# Altium schematic symbol library kmilo17pet-TI_LDO_0_350.SchLib: 1649 symbols (part 41 of 66)
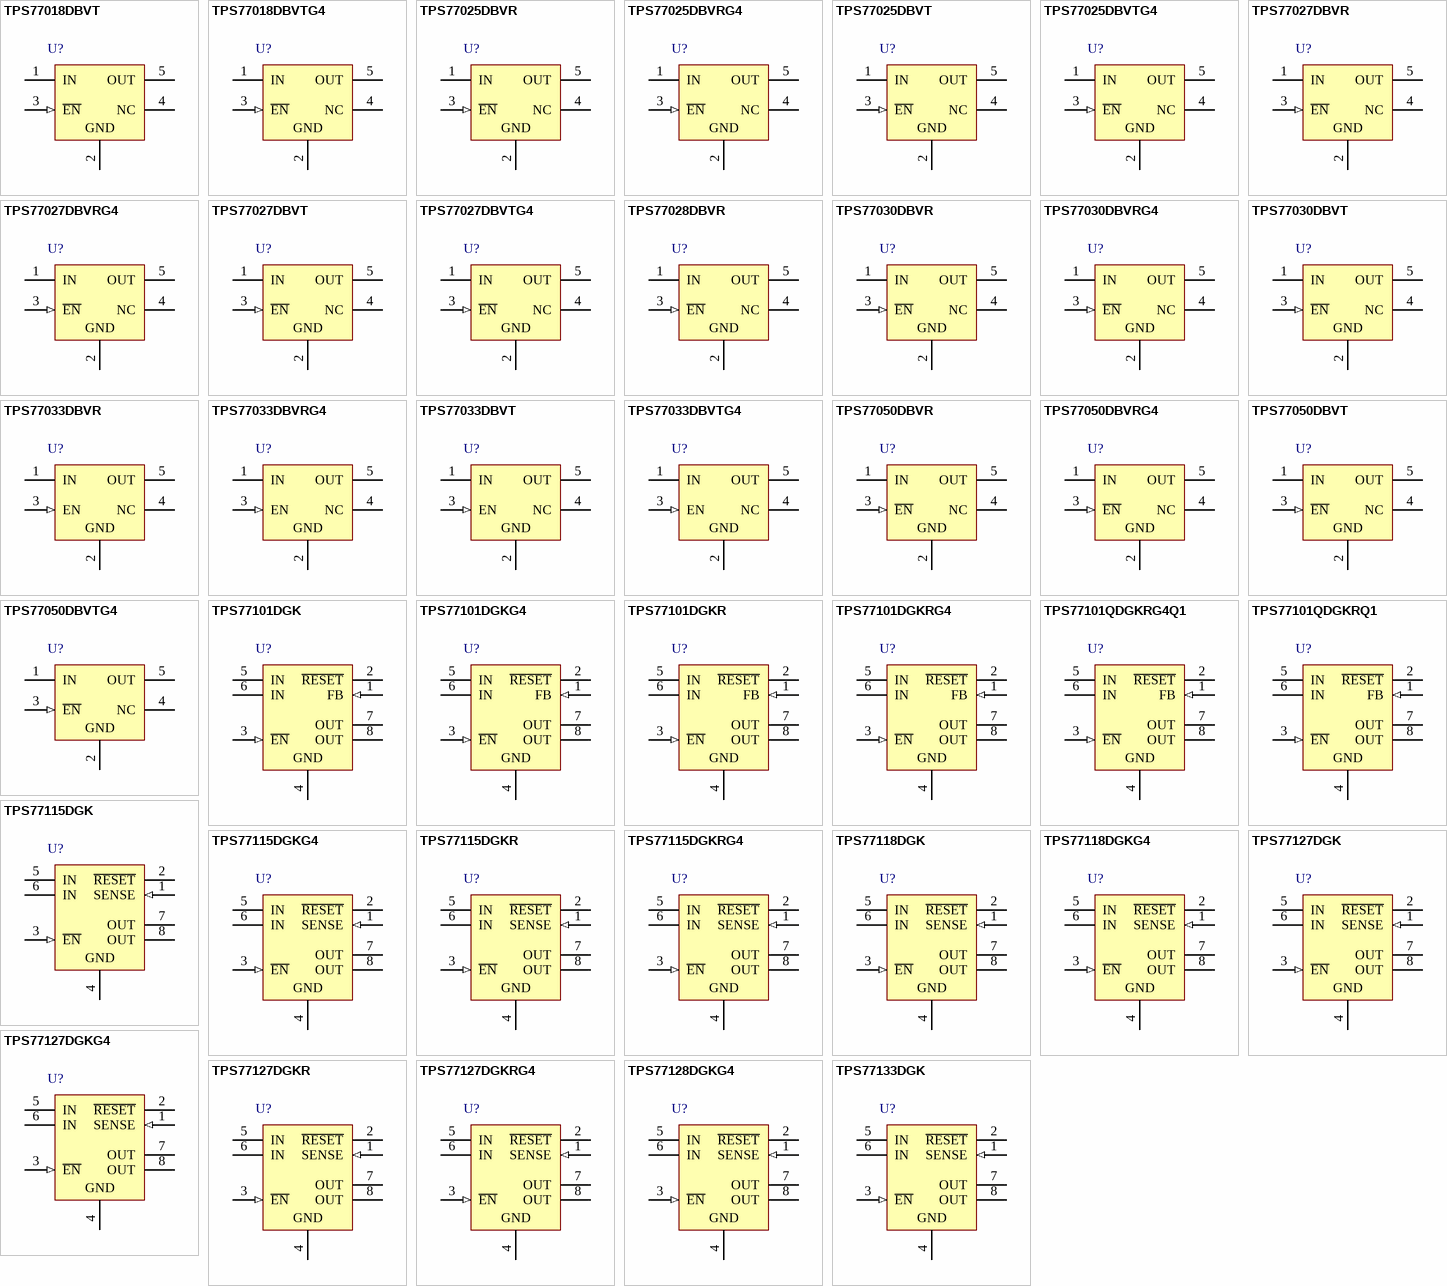
[diagram p82: symbols TPS77018DBVT to TPS77133DGK]

## TPS77027DBVTG4
designator U?
Single Output LDO, 50 mA, Fixed 2.7 V Output, 2.7 to 10 V Input, 5-pin SOT-23 (DBV), -40 to 125 degC, Green (RoHS & no Sb/Br); Manufacturer: Texas Instruments; PartNumber: TPS77027DBVTG4; Accuracy(%): 3; Fixed Output Options(V): 2.7; Iout(Max)(A): 0.05; Iq(Typ)(mA): 0.02; SubFamily: Single Channel LDO; Vdo(Typ)(mV): 35; Vin(Max)(V): 10; DatasheetVersion: SLVS210D; PackageVersion: 4073253-4/K; PackageReference: DBV5; PackageDescription: 5-Pin Plastic Small Outline, Body 1.60 Ã— 2.90 mm, Pitch 0.95 mm; Supplier 1: Digi-Key; Supplier Part Number 1: TPS77027DBVTG4-ND; Supplier 2: Mouser; Supplier Part Number 2: 595-TPS77027DBVTG4; Eco-Plan: Green (RoHS & no Sb/Br); Vin(Min)(V): 2.7; Vout Adj(Max)(V): 2.7; Vout Adj(Min)(V): 2.7; Mounting Technology: Surface Mount; Code_JEDEC: MO-178; ComponentLink1Description: Manufacturer URL; ComponentLink1URL: http://www.ti.com/; ComponentLink2Description: Datasheet; ComponentLink2URL: http://www.ti.com/general/docs/lit/getliterature.tsp?genericPartNumber=TPS77027&fileType=pdf; ComponentLink3Description: Package Specification; ComponentLink3URL: http://www.ti.com/litv/pdf/mpds018i
footprint TI-DBV5_N (SOT23, 5-Leads, Body 2.9x1.6mm, Pitch 0.95mm, IPC Medium Density)
footprint TI-DBV5_L (SOT23, 5-Leads, Body 2.9x1.6mm, Pitch 0.95mm, IPC High Density)
footprint TI-DBV5_M (SOT23, 5-Leads, Body 2.9x1.6mm, Pitch 0.95mm, IPC Low Density)
pins: 1 IN (power) "Input supply voltage", 2 GND (power) "Ground", 3 ~{EN} (in) "Enable input", 4 NC "No connection", 5 OUT (power) "Regulated output voltage"

## TPS77028DBVR
designator U?
Single Output LDO, 50 mA, Fixed 2.8 V Output, 2.7 to 10 V Input, with Low IQ, 5-pin SOT-23 (DBV), -40 to 125 degC, Green (RoHS & no Sb/Br); Manufacturer: Texas Instruments; PartNumber: TPS77028DBVR; Accuracy(%): 3; Fixed Output Options(V): 2.8; Iout(Max)(A): 0.05; Iq(Typ)(mA): 0.02; Rating: Catalog; SubFamily: Single Channel LDO; Vdo(Typ)(mV): 60; Vin(Max)(V): 10; Vin(Min)(V): 2.7; DatasheetVersion: SLVS017U; PackageVersion: 4073253-4/K; PackageReference: DBV5; PackageDescription: 5-Pin Plastic Small Outline, Body 1.60 Ã— 2.90 mm, Pitch 0.95 mm; Supplier 1: Digi-Key; Supplier Part Number 1: 296-11049-2-ND; Supplier 2: Digi-Key; Supplier Part Number 2: 296-11049-1-ND; Supplier 3: Digi-Key; Supplier Part Number 3: 296-11049-6-ND; Supplier 4: Newark; Supplier Part Number 4: 77C1182; Supplier 5: Mouser; Supplier Part Number 5: 595-TPS77028DBVR; Eco-Plan: Green (RoHS & no Sb/Br); Vout Adj(Max)(V): 2.8; Vout Adj(Min)(V): 2.8; Mounting Technology: Surface Mount; Code_JEDEC: MO-178; ComponentLink1Description: Manufacturer URL; ComponentLink1URL: http://www.ti.com/; ComponentLink2Description: Datasheet; ComponentLink2URL: http://www.ti.com/general/docs/lit/getliterature.tsp?genericPartNumber=TL751L10&fileType=pdf; ComponentLink3Description: Package Specification; ComponentLink3URL: http://www.ti.com/litv/pdf/mpds018i; ComponentLink4Description: URL Link1; ComponentLink4URL: Samples URL:http://www.ti.com/product/tl751l10#samples
footprint TI-DBV5_N (SOT23, 5-Leads, Body 2.9x1.6mm, Pitch 0.95mm, IPC Medium Density)
footprint TI-DBV5_L (SOT23, 5-Leads, Body 2.9x1.6mm, Pitch 0.95mm, IPC High Density)
footprint TI-DBV5_M (SOT23, 5-Leads, Body 2.9x1.6mm, Pitch 0.95mm, IPC Low Density)
pins: 1 IN (power) "Input supply voltage", 2 GND (power) "Ground", 3 ~{EN} (in) "Enable input", 4 NC "No connection", 5 OUT (power) "Regulated output voltage"

## TPS77030DBVR
designator U?
Single Output LDO, 50 mA, Fixed 3 V Output, 2.7 to 10 V Input, with Low IQ, 5-pin SOT-23 (DBV), -40 to 125 degC, Green (RoHS & no Sb/Br); Manufacturer: Texas Instruments; PartNumber: TPS77030DBVR; Accuracy(%): 3; Iout(Max)(A): 0.05; Iq(Typ)(mA): 0.02; Rating: Catalog; SubFamily: Single Channel LDO; Vdo(Typ)(mV): 57; Vin(Max)(V): 10; Vin(Min)(V): 2.7; DatasheetVersion: SLVS210D; PackageVersion: 4073253-4/K; PackageReference: DBV5; PackageDescription: 5-Pin Plastic Small Outline, Body 1.60 Ã— 2.90 mm, Pitch 0.95 mm; Supplier 1: Digi-Key; Supplier Part Number 1: 296-11050-2-ND; Supplier 2: Digi-Key; Supplier Part Number 2: 296-11050-1-ND; Supplier 3: Digi-Key; Supplier Part Number 3: 296-11050-6-ND; Supplier 4: Newark; Supplier Part Number 4: 77C1184; Supplier 5: Mouser; Supplier Part Number 5: 595-TPS77030DBVR; Eco-Plan: Green (RoHS & no Sb/Br); Fixed Output Options(V): 3; Vout Adj(Max)(V): 3; Vout Adj(Min)(V): 3; Mounting Technology: Surface Mount; Code_JEDEC: MO-178; ComponentLink1Description: Manufacturer URL; ComponentLink1URL: http://www.ti.com/; ComponentLink2Description: Datasheet; ComponentLink2URL: http://www.ti.com/general/docs/lit/getliterature.tsp?genericPartNumber=TPS77030&fileType=pdf; ComponentLink3Description: Package Specification; ComponentLink3URL: http://www.ti.com/litv/pdf/mpds018i; ComponentLink4Description: URL Link1; ComponentLink4URL: Samples URL:http://www.ti.com/product/tps77030#samples
footprint TI-DBV5_N (SOT23, 5-Leads, Body 2.9x1.6mm, Pitch 0.95mm, IPC Medium Density)
footprint TI-DBV5_L (SOT23, 5-Leads, Body 2.9x1.6mm, Pitch 0.95mm, IPC High Density)
footprint TI-DBV5_M (SOT23, 5-Leads, Body 2.9x1.6mm, Pitch 0.95mm, IPC Low Density)
pins: 1 IN (power) "Input supply voltage", 2 GND (power) "Ground", 3 ~{EN} (in) "Enable input", 4 NC "No connection", 5 OUT (power) "Regulated output voltage"

## TPS77030DBVRG4
designator U?
Single Output LDO, 50 mA, Fixed 3 V Output, 2.7 to 10 V Input, with Low IQ, 5-pin SOT-23 (DBV), -40 to 125 degC, Green (RoHS & no Sb/Br); Manufacturer: Texas Instruments; PartNumber: TPS77030DBVRG4; Accuracy(%): 3; Iout(Max)(A): 0.05; Iq(Typ)(mA): 0.02; Rating: Catalog; SubFamily: Single Channel LDO; Vdo(Typ)(mV): 57; Vin(Max)(V): 10; Vin(Min)(V): 2.7; DatasheetVersion: SLVS210D; PackageVersion: 4073253-4/K; PackageReference: DBV5; PackageDescription: 5-Pin Plastic Small Outline, Body 1.60 Ã— 2.90 mm, Pitch 0.95 mm; Supplier 1: Digi-Key; Supplier Part Number 1: TPS77030DBVRG4-ND; Supplier 2: Newark; Supplier Part Number 2: 71J8277; Supplier 3: Mouser; Supplier Part Number 3: 595-TPS77030DBVRG4; Eco-Plan: Green (RoHS & no Sb/Br); Fixed Output Options(V): 3; Vout Adj(Max)(V): 3; Vout Adj(Min)(V): 3; Mounting Technology: Surface Mount; Code_JEDEC: MO-178; ComponentLink1Description: Manufacturer URL; ComponentLink1URL: http://www.ti.com/; ComponentLink2Description: Datasheet; ComponentLink2URL: http://www.ti.com/general/docs/lit/getliterature.tsp?genericPartNumber=TPS77030&fileType=pdf; ComponentLink3Description: Package Specification; ComponentLink3URL: http://www.ti.com/litv/pdf/mpds018i; ComponentLink4Description: URL Link1; ComponentLink4URL: Samples URL:http://www.ti.com/product/tps77030#samples
footprint TI-DBV5_N (SOT23, 5-Leads, Body 2.9x1.6mm, Pitch 0.95mm, IPC Medium Density)
footprint TI-DBV5_L (SOT23, 5-Leads, Body 2.9x1.6mm, Pitch 0.95mm, IPC High Density)
footprint TI-DBV5_M (SOT23, 5-Leads, Body 2.9x1.6mm, Pitch 0.95mm, IPC Low Density)
pins: 1 IN (power) "Input supply voltage", 2 GND (power) "Ground", 3 ~{EN} (in) "Enable input", 4 NC "No connection", 5 OUT (power) "Regulated output voltage"

## TPS77030DBVT
designator U?
Single Output LDO, 50 mA, Fixed 3 V Output, 2.7 to 10 V Input, with Low IQ, 5-pin SOT-23 (DBV), -40 to 125 degC, Green (RoHS & no Sb/Br); Manufacturer: Texas Instruments; PartNumber: TPS77030DBVT; Accuracy(%): 3; Iout(Max)(A): 0.05; Iq(Typ)(mA): 0.02; Rating: Catalog; SubFamily: Single Channel LDO; Vdo(Typ)(mV): 57; Vin(Max)(V): 10; Vin(Min)(V): 2.7; DatasheetVersion: SLVS210D; PackageVersion: 4073253-4/K; PackageReference: DBV5; PackageDescription: 5-Pin Plastic Small Outline, Body 1.60 Ã— 2.90 mm, Pitch 0.95 mm; Supplier 1: Digi-Key; Supplier Part Number 1: 296-2769-2-ND; Supplier 2: Digi-Key; Supplier Part Number 2: 296-2769-1-ND; Supplier 3: Digi-Key; Supplier Part Number 3: 296-2769-6-ND; Supplier 4: Newark; Supplier Part Number 4: 77C1185; Supplier 5: Mouser; Supplier Part Number 5: 595-TPS77030DBVT; Eco-Plan: Green (RoHS & no Sb/Br); Fixed Output Options(V): 3; Vout Adj(Max)(V): 3; Vout Adj(Min)(V): 3; Mounting Technology: Surface Mount; Code_JEDEC: MO-178; ComponentLink1Description: Manufacturer URL; ComponentLink1URL: http://www.ti.com/; ComponentLink2Description: Datasheet; ComponentLink2URL: http://www.ti.com/general/docs/lit/getliterature.tsp?genericPartNumber=TPS77030&fileType=pdf; ComponentLink3Description: Package Specification; ComponentLink3URL: http://www.ti.com/litv/pdf/mpds018i; ComponentLink4Description: URL Link1; ComponentLink4URL: Samples URL:http://www.ti.com/product/tps77030#samples
footprint TI-DBV5_N (SOT23, 5-Leads, Body 2.9x1.6mm, Pitch 0.95mm, IPC Medium Density)
footprint TI-DBV5_L (SOT23, 5-Leads, Body 2.9x1.6mm, Pitch 0.95mm, IPC High Density)
footprint TI-DBV5_M (SOT23, 5-Leads, Body 2.9x1.6mm, Pitch 0.95mm, IPC Low Density)
pins: 1 IN (power) "Input supply voltage", 2 GND (power) "Ground", 3 ~{EN} (in) "Enable input", 4 NC "No connection", 5 OUT (power) "Regulated output voltage"

## TPS77033DBVR
designator U?
Single Output Low Noise LDO, 50 mA, Fixed 3.3 V Output, 2.7 to 10 V Input, 5-pin SOT-23 (DBV), -40 to 125 degC, Green (RoHS & no Sb/Br); Manufacturer: Texas Instruments; PartNumber: TPS77033DBVR; Accuracy(%): 3; Fixed Output Options(V): 3.3; Iout(Max)(A): 0.05; Iq(Typ)(mA): 0.28; Rating: Catalog; SubFamily: Single Channel LDO; Vdo(Typ)(mV): 48; Vin(Max)(V): 10; Vin(Min)(V): 2.7; DatasheetVersion: SLVS390B; PackageVersion: 4073253-4/K; PackageReference: DBV5; PackageDescription: 5-Pin Plastic Small Outline, Body 1.60 Ã— 2.90 mm, Pitch 0.95 mm; Supplier 1: Digi-Key; Supplier Part Number 1: 296-11051-2-ND; Supplier 2: Digi-Key; Supplier Part Number 2: 296-11051-1-ND; Supplier 3: Digi-Key; Supplier Part Number 3: 296-11051-6-ND; Supplier 4: Newark; Supplier Part Number 4: 77C1186; Supplier 5: Mouser; Supplier Part Number 5: 595-TPS77033DBVR; Eco-Plan: Green (RoHS & no Sb/Br); Vout Adj(Max)(V): 3.3; Vout Adj(Min)(V): 3.3; Mounting Technology: Surface Mount; Code_JEDEC: MO-178; ComponentLink1Description: Manufacturer URL; ComponentLink1URL: http://www.ti.com/; ComponentLink2Description: Datasheet; ComponentLink2URL: http://www.ti.com/general/docs/lit/getliterature.tsp?genericPartNumber=TPS72218&fileType=pdf; ComponentLink3Description: Package Specification; ComponentLink3URL: http://www.ti.com/litv/pdf/mpds018i; ComponentLink4Description: URL Link1; ComponentLink4URL: Samples URL:http://www.ti.com/product/tps77033
footprint TI-DBV5_N (SOT23, 5-Leads, Body 2.9x1.6mm, Pitch 0.95mm, IPC Medium Density)
footprint TI-DBV5_L (SOT23, 5-Leads, Body 2.9x1.6mm, Pitch 0.95mm, IPC High Density)
footprint TI-DBV5_M (SOT23, 5-Leads, Body 2.9x1.6mm, Pitch 0.95mm, IPC Low Density)
pins: 1 IN (power) "Input supply voltage", 2 GND (power) "Ground", 3 EN (in) "Enable input", 4 NC "No connected", 5 OUT (power) "Regulated output voltage"

## TPS77033DBVRG4
designator U?
Single Output Low Noise LDO, 50 mA, Fixed 3.3 V Output, 2.7 to 10 V Input, 5-pin SOT-23 (DBV), -40 to 125 degC, Green (RoHS & no Sb/Br); Manufacturer: Texas Instruments; PartNumber: TPS77033DBVRG4; Accuracy(%): 3; Fixed Output Options(V): 3.3; Iout(Max)(A): 0.05; Iq(Typ)(mA): 0.28; Rating: Catalog; SubFamily: Single Channel LDO; Vdo(Typ)(mV): 48; Vin(Max)(V): 10; Vin(Min)(V): 2.7; DatasheetVersion: SLVS390B; PackageVersion: 4073253-4/K; PackageReference: DBV5; PackageDescription: 5-Pin Plastic Small Outline, Body 1.60 Ã— 2.90 mm, Pitch 0.95 mm; Supplier 1: Digi-Key; Supplier Part Number 1: TPS77033DBVRG4-ND; Supplier 2: Newark; Supplier Part Number 2: 71J8279; Supplier 3: Mouser; Supplier Part Number 3: 595-TPS77033DBVRG4; Eco-Plan: Green (RoHS & no Sb/Br); Vout Adj(Max)(V): 3.3; Vout Adj(Min)(V): 3.3; Mounting Technology: Surface Mount; Code_JEDEC: MO-178; ComponentLink1Description: Manufacturer URL; ComponentLink1URL: http://www.ti.com/; ComponentLink2Description: Datasheet; ComponentLink2URL: http://www.ti.com/general/docs/lit/getliterature.tsp?genericPartNumber=TPS72218&fileType=pdf; ComponentLink3Description: Package Specification; ComponentLink3URL: http://www.ti.com/litv/pdf/mpds018i; ComponentLink4Description: URL Link1; ComponentLink4URL: Samples URL:http://www.ti.com/product/tps77033
footprint TI-DBV5_N (SOT23, 5-Leads, Body 2.9x1.6mm, Pitch 0.95mm, IPC Medium Density)
footprint TI-DBV5_L (SOT23, 5-Leads, Body 2.9x1.6mm, Pitch 0.95mm, IPC High Density)
footprint TI-DBV5_M (SOT23, 5-Leads, Body 2.9x1.6mm, Pitch 0.95mm, IPC Low Density)
pins: 1 IN (power) "Input supply voltage", 2 GND (power) "Ground", 3 EN (in) "Enable input", 4 NC "No connected", 5 OUT (power) "Regulated output voltage"

## TPS77033DBVT
designator U?
Single Output Low Noise LDO, 50 mA, Fixed 3.3 V Output, 2.7 to 10 V Input, 5-pin SOT-23 (DBV), -40 to 125 degC, Green (RoHS & no Sb/Br); Manufacturer: Texas Instruments; PartNumber: TPS77033DBVT; Accuracy(%): 3; Fixed Output Options(V): 3.3; Iout(Max)(A): 0.05; Iq(Typ)(mA): 0.28; Rating: Catalog; SubFamily: Single Channel LDO; Vdo(Typ)(mV): 48; Vin(Max)(V): 10; Vin(Min)(V): 2.7; DatasheetVersion: SLVS390B; PackageVersion: 4073253-4/K; PackageReference: DBV5; PackageDescription: 5-Pin Plastic Small Outline, Body 1.60 Ã— 2.90 mm, Pitch 0.95 mm; Supplier 1: Digi-Key; Supplier Part Number 1: 296-2770-2-ND; Supplier 2: Digi-Key; Supplier Part Number 2: 296-2770-1-ND; Supplier 3: Digi-Key; Supplier Part Number 3: 296-2770-6-ND; Supplier 4: Farnell; Supplier Part Number 4: 8461570; Supplier 5: Farnell; Supplier Part Number 5: 8461570RL; Supplier 6: Newark; Supplier Part Number 6: 77C1187; Supplier 7: Mouser; Supplier Part Number 7: 595-TPS77033DBVT; Eco-Plan: Green (RoHS & no Sb/Br); Vout Adj(Max)(V): 3.3; Vout Adj(Min)(V): 3.3; Mounting Technology: Surface Mount; Code_JEDEC: MO-178; ComponentLink1Description: Manufacturer URL; ComponentLink1URL: http://www.ti.com/; ComponentLink2Description: Datasheet; ComponentLink2URL: http://www.ti.com/general/docs/lit/getliterature.tsp?genericPartNumber=TPS72218&fileType=pdf; ComponentLink3Description: Package Specification; ComponentLink3URL: http://www.ti.com/litv/pdf/mpds018i; ComponentLink4Description: URL Link1; ComponentLink4URL: Samples URL:http://www.ti.com/product/tps77033
footprint TI-DBV5_N (SOT23, 5-Leads, Body 2.9x1.6mm, Pitch 0.95mm, IPC Medium Density)
footprint TI-DBV5_L (SOT23, 5-Leads, Body 2.9x1.6mm, Pitch 0.95mm, IPC High Density)
footprint TI-DBV5_M (SOT23, 5-Leads, Body 2.9x1.6mm, Pitch 0.95mm, IPC Low Density)
pins: 1 IN (power) "Input supply voltage", 2 GND (power) "Ground", 3 EN (in) "Enable input", 4 NC "No connected", 5 OUT (power) "Regulated output voltage"

## TPS77033DBVTG4
designator U?
Single Output Low Noise LDO, 50 mA, Fixed 3.3 V Output, 2.7 to 10 V Input, 5-pin SOT-23 (DBV), -40 to 125 degC, Green (RoHS & no Sb/Br); Manufacturer: Texas Instruments; PartNumber: TPS77033DBVTG4; Accuracy(%): 3; Fixed Output Options(V): 3.3; Iout(Max)(A): 0.05; Iq(Typ)(mA): 0.02; Rating: Catalog; SubFamily: Single Channel LDO; Vdo(Typ)(mV): 48; Vin(Max)(V): 10; Vin(Min)(V): 2.7; DatasheetVersion: SLVS390B; PackageVersion: 4073253-4/K; PackageReference: DBV5; PackageDescription: 5-Pin Plastic Small Outline, Body 1.60 Ã— 2.90 mm, Pitch 0.95 mm; Supplier 1: Digi-Key; Supplier Part Number 1: TPS77033DBVTG4-ND; Supplier 2: Mouser; Supplier Part Number 2: 595-TPS77033DBVTG4; Eco-Plan: Green (RoHS & no Sb/Br); Vout Adj(Max)(V): 3.3; Vout Adj(Min)(V): 3.3; Mounting Technology: Surface Mount; Code_JEDEC: MO-178; ComponentLink1Description: Manufacturer URL; ComponentLink1URL: http://www.ti.com/; ComponentLink2Description: Datasheet; ComponentLink2URL: http://www.ti.com/general/docs/lit/getliterature.tsp?genericPartNumber=TPS72218&fileType=pdf; ComponentLink3Description: Package Specification; ComponentLink3URL: http://www.ti.com/litv/pdf/mpds018i; ComponentLink4Description: URL Link1; ComponentLink4URL: Samples URL:http://www.ti.com/product/tps77033
footprint TI-DBV5_N (SOT23, 5-Leads, Body 2.9x1.6mm, Pitch 0.95mm, IPC Medium Density)
footprint TI-DBV5_L (SOT23, 5-Leads, Body 2.9x1.6mm, Pitch 0.95mm, IPC High Density)
footprint TI-DBV5_M (SOT23, 5-Leads, Body 2.9x1.6mm, Pitch 0.95mm, IPC Low Density)
pins: 1 IN (power) "Input supply voltage", 2 GND (power) "Ground", 3 EN (in) "Enable input", 4 NC "No connected", 5 OUT (power) "Regulated output voltage"

## TPS77050DBVR
designator U?
Single Output LDO, 50 mA, Fixed 5 V Output, 2.7 to 10 V Input, 5-pin SOT-23 (DBV), -40 to 125 degC, Green (RoHS & no Sb/Br); Manufacturer: Texas Instruments; PartNumber: TPS77050DBVR; Accuracy(%): 3; Fixed Output Options(V): 5; Iout(Max)(A): 0.05; Iq(Typ)(mA): 0.02; SubFamily: Single Channel LDO; Vdo(Typ)(mV): 35; Vin(Max)(V): 10; Vin(Min)(V): 2.7; DatasheetVersion: SLVS210D; PackageVersion: 4073253-4/K; PackageReference: DBV5; PackageDescription: 5-Pin Plastic Small Outline, Body 1.60 Ã— 2.90 mm, Pitch 0.95 mm; Supplier 1: Digi-Key; Supplier Part Number 1: 296-11052-2-ND; Supplier 2: Digi-Key; Supplier Part Number 2: 296-11052-1-ND; Supplier 3: Digi-Key; Supplier Part Number 3: 296-11052-6-ND; Supplier 4: Newark; Supplier Part Number 4: 77C1188; Supplier 5: Mouser; Supplier Part Number 5: 595-TPS77050DBVR; Eco-Plan: Green (RoHS & no Sb/Br); Vout Adj(Max)(V): 5; Vout Adj(Min)(V): 5; Mounting Technology: Surface Mount; Code_JEDEC: MO-178; ComponentLink1Description: Manufacturer URL; ComponentLink1URL: http://www.ti.com/; ComponentLink2Description: Datasheet; ComponentLink2URL: http://www.ti.com/general/docs/lit/getliterature.tsp?genericPartNumber=TPS77050&fileType=pdf; ComponentLink3Description: Package Specification; ComponentLink3URL: http://www.ti.com/litv/pdf/mpds018i
footprint TI-DBV5_N (SOT23, 5-Leads, Body 2.9x1.6mm, Pitch 0.95mm, IPC Medium Density)
footprint TI-DBV5_L (SOT23, 5-Leads, Body 2.9x1.6mm, Pitch 0.95mm, IPC High Density)
footprint TI-DBV5_M (SOT23, 5-Leads, Body 2.9x1.6mm, Pitch 0.95mm, IPC Low Density)
pins: 1 IN (power) "Input supply voltage", 2 GND (power) "Ground", 3 ~{EN} (in) "Enable input", 4 NC "No connection", 5 OUT (power) "Regulated output voltage"

## TPS77050DBVRG4
designator U?
Single Output LDO, 50 mA, Fixed 5 V Output, 2.7 to 10 V Input, 5-pin SOT-23 (DBV), -40 to 125 degC, Green (RoHS & no Sb/Br); Manufacturer: Texas Instruments; PartNumber: TPS77050DBVRG4; Accuracy(%): 3; Fixed Output Options(V): 5; Iout(Max)(A): 0.05; Iq(Typ)(mA): 0.02; SubFamily: Single Channel LDO; Vdo(Typ)(mV): 35; Vin(Max)(V): 10; Vin(Min)(V): 2.7; DatasheetVersion: SLVS210D; PackageVersion: 4073253-4/K; PackageReference: DBV5; PackageDescription: 5-Pin Plastic Small Outline, Body 1.60 Ã— 2.90 mm, Pitch 0.95 mm; Supplier 1: Digi-Key; Supplier Part Number 1: TPS77050DBVRG4-ND; Supplier 2: Newark; Supplier Part Number 2: 24K6189; Supplier 3: Mouser; Supplier Part Number 3: 595-TPS77050DBVRG4; Eco-Plan: Green (RoHS & no Sb/Br); Vout Adj(Max)(V): 5; Vout Adj(Min)(V): 5; Mounting Technology: Surface Mount; Code_JEDEC: MO-178; ComponentLink1Description: Manufacturer URL; ComponentLink1URL: http://www.ti.com/; ComponentLink2Description: Datasheet; ComponentLink2URL: http://www.ti.com/general/docs/lit/getliterature.tsp?genericPartNumber=TPS77050&fileType=pdf; ComponentLink3Description: Package Specification; ComponentLink3URL: http://www.ti.com/litv/pdf/mpds018i
footprint TI-DBV5_N (SOT23, 5-Leads, Body 2.9x1.6mm, Pitch 0.95mm, IPC Medium Density)
footprint TI-DBV5_L (SOT23, 5-Leads, Body 2.9x1.6mm, Pitch 0.95mm, IPC High Density)
footprint TI-DBV5_M (SOT23, 5-Leads, Body 2.9x1.6mm, Pitch 0.95mm, IPC Low Density)
pins: 1 IN (power) "Input supply voltage", 2 GND (power) "Ground", 3 ~{EN} (in) "Enable input", 4 NC "No connection", 5 OUT (power) "Regulated output voltage"

## TPS77050DBVT
designator U?
Single Output LDO, 50 mA, Fixed 5 V Output, 2.7 to 10 V Input, 5-pin SOT-23 (DBV), -40 to 125 degC, Green (RoHS & no Sb/Br); Manufacturer: Texas Instruments; PartNumber: TPS77050DBVT; Accuracy(%): 3; Fixed Output Options(V): 5; Iout(Max)(A): 0.05; Iq(Typ)(mA): 0.02; SubFamily: Single Channel LDO; Vdo(Typ)(mV): 35; Vin(Max)(V): 10; Vin(Min)(V): 2.7; DatasheetVersion: SLVS210D; PackageVersion: 4073253-4/K; PackageReference: DBV5; PackageDescription: 5-Pin Plastic Small Outline, Body 1.60 Ã— 2.90 mm, Pitch 0.95 mm; Supplier 1: Digi-Key; Supplier Part Number 1: 296-2771-2-ND; Supplier 2: Digi-Key; Supplier Part Number 2: 296-2771-1-ND; Supplier 3: Digi-Key; Supplier Part Number 3: 296-2771-6-ND; Supplier 4: Newark; Supplier Part Number 4: 77C1189; Supplier 5: Mouser; Supplier Part Number 5: 595-TPS77050DBVT; Eco-Plan: Green (RoHS & no Sb/Br); Vout Adj(Max)(V): 5; Vout Adj(Min)(V): 5; Mounting Technology: Surface Mount; Code_JEDEC: MO-178; ComponentLink1Description: Manufacturer URL; ComponentLink1URL: http://www.ti.com/; ComponentLink2Description: Datasheet; ComponentLink2URL: http://www.ti.com/general/docs/lit/getliterature.tsp?genericPartNumber=TPS77050&fileType=pdf; ComponentLink3Description: Package Specification; ComponentLink3URL: http://www.ti.com/litv/pdf/mpds018i
footprint TI-DBV5_N (SOT23, 5-Leads, Body 2.9x1.6mm, Pitch 0.95mm, IPC Medium Density)
footprint TI-DBV5_L (SOT23, 5-Leads, Body 2.9x1.6mm, Pitch 0.95mm, IPC High Density)
footprint TI-DBV5_M (SOT23, 5-Leads, Body 2.9x1.6mm, Pitch 0.95mm, IPC Low Density)
pins: 1 IN (power) "Input supply voltage", 2 GND (power) "Ground", 3 ~{EN} (in) "Enable input", 4 NC "No connection", 5 OUT (power) "Regulated output voltage"

## TPS77050DBVTG4
designator U?
Single Output LDO, 50 mA, Fixed 5 V Output, 2.7 to 10 V Input, 5-pin SOT-23 (DBV), -40 to 125 degC, Green (RoHS & no Sb/Br); Manufacturer: Texas Instruments; PartNumber: TPS77050DBVTG4; Accuracy(%): 3; Fixed Output Options(V): 5; Iout(Max)(A): 0.05; Iq(Typ)(mA): 0.02; SubFamily: Single Channel LDO; Vdo(Typ)(mV): 35; Vin(Max)(V): 10; Vin(Min)(V): 2.7; DatasheetVersion: SLVS210D; PackageVersion: 4073253-4/K; PackageReference: DBV5; PackageDescription: 5-Pin Plastic Small Outline, Body 1.60 Ã— 2.90 mm, Pitch 0.95 mm; Supplier 1: Digi-Key; Supplier Part Number 1: TPS77050DBVTG4-ND; Supplier 2: Newark; Supplier Part Number 2: 24K6190; Supplier 3: Mouser; Supplier Part Number 3: 595-TPS77050DBVTG4; Eco-Plan: Green (RoHS & no Sb/Br); Vout Adj(Max)(V): 5; Vout Adj(Min)(V): 5; Mounting Technology: Surface Mount; Code_JEDEC: MO-178; ComponentLink1Description: Manufacturer URL; ComponentLink1URL: http://www.ti.com/; ComponentLink2Description: Datasheet; ComponentLink2URL: http://www.ti.com/general/docs/lit/getliterature.tsp?genericPartNumber=TPS77050&fileType=pdf; ComponentLink3Description: Package Specification; ComponentLink3URL: http://www.ti.com/litv/pdf/mpds018i
footprint TI-DBV5_N (SOT23, 5-Leads, Body 2.9x1.6mm, Pitch 0.95mm, IPC Medium Density)
footprint TI-DBV5_L (SOT23, 5-Leads, Body 2.9x1.6mm, Pitch 0.95mm, IPC High Density)
footprint TI-DBV5_M (SOT23, 5-Leads, Body 2.9x1.6mm, Pitch 0.95mm, IPC Low Density)
pins: 1 IN (power) "Input supply voltage", 2 GND (power) "Ground", 3 ~{EN} (in) "Enable input", 4 NC "No connection", 5 OUT (power) "Regulated output voltage"

## TPS77101DGK
designator U?
Single Output Fast Transient Response LDO, 150 mA, Adjustable 1.5 to 5.5 V Output, 2.7 to 10 V Input, 8-pin MSOP (DGK), -40 to 125 degC, Green (RoHS & no Sb/Br); Manufacturer: Texas Instruments; PartNumber: TPS77101DGK; Accuracy(%): 2; Iout(Max)(A): 0.15; Iq(Typ)(mA): 0.09; Rating: Catalog; SubFamily: Single Channel LDO; Vdo(Typ)(mV): 75; Vin(Max)(V): 10; Vin(Min)(V): 2.7; Vout Adj(Max)(V): 5.5; Vout Adj(Min)(V): 1.5; DatasheetVersion: SLVS225D; PackageVersion: 4073329/E; PackageReference: DGK8; PackageDescription: 8-Pin Thin Small Outline Package 3 x 3 mm Body ,0.65 mm Pitch; Supplier 1: Digi-Key; Supplier Part Number 1: 296-8094-5-ND; Supplier 2: Newark; Supplier Part Number 2: 19C9090; Supplier 3: Mouser; Supplier Part Number 3: 595-TPS77101DGK; Eco-Plan: Green (RoHS & no Sb/Br); Mounting Technology: Surface Mount; Code_JEDEC: MO-187; ComponentLink1Description: Manufacturer URL; ComponentLink1URL: http://www.ti.com/; ComponentLink2Description: Datasheet; ComponentLink2URL: http://www.ti.com/general/docs/lit/getliterature.tsp?genericPartNumber=TPS77101&fileType=pdf; ComponentLink3Description: Package Specification; ComponentLink3URL: http://www.ti.com/litv/pdf/mpds028d; ComponentLink4Description: URL Link1; ComponentLink4URL: Samples URL:http://www.ti.com/product/tps77101#samples
footprint TI-DGK8_N (SOP, 8-Leads, Body 3x3mm, Pitch 0.65mm, IPC Medium Density)
footprint TI-DGK8_L (SOP, 8-Leads, Body 3x3mm, Pitch 0.65mm, IPC High Density)
footprint TI-DGK8_M (SOP, 8-Leads, Body 3x3mm, Pitch 0.65mm, IPC Low Density)
pins: 1 FB (in) "Feedback input voltage for adjustable device", 2 ~{RESET} (hiz) "Reset output", 3 ~{EN} (in) "Enable input", 4 GND (power) "Regulator ground", 5 IN (power) "Input voltage", 6 IN (power) "Input voltage", 7 OUT (power) "Regulated output voltage", 8 OUT (power) "Regulated output voltage"

## TPS77101DGKG4
designator U?
Single Output Fast Transient Response LDO, 150 mA, Adjustable 1.5 to 5.5 V Output, 2.7 to 10 V Input, 8-pin MSOP (DGK), -40 to 125 degC, Green (RoHS & no Sb/Br); Manufacturer: Texas Instruments; PartNumber: TPS77101DGKG4; Accuracy(%): 2; Iout(Max)(A): 0.15; Iq(Typ)(mA): 0.09; Rating: Catalog; SubFamily: Single Channel LDO; Vdo(Typ)(mV): 75; Vin(Max)(V): 10; Vin(Min)(V): 2.7; Vout Adj(Max)(V): 5.5; Vout Adj(Min)(V): 1.5; DatasheetVersion: SLVS225D; PackageVersion: 4073329/E; PackageReference: DGK8; PackageDescription: 8-Pin Thin Small Outline Package 3 x 3 mm Body ,0.65 mm Pitch; Supplier 1: Digi-Key; Supplier Part Number 1: TPS77101DGKG4-ND; Supplier 2: Mouser; Supplier Part Number 2: 595-TPS77101DGKG4; Eco-Plan: Green (RoHS & no Sb/Br); Mounting Technology: Surface Mount; Code_JEDEC: MO-187; ComponentLink1Description: Manufacturer URL; ComponentLink1URL: http://www.ti.com/; ComponentLink2Description: Datasheet; ComponentLink2URL: http://www.ti.com/general/docs/lit/getliterature.tsp?genericPartNumber=TPS77101&fileType=pdf; ComponentLink3Description: Package Specification; ComponentLink3URL: http://www.ti.com/litv/pdf/mpds028d; ComponentLink4Description: URL Link1; ComponentLink4URL: Samples URL:http://www.ti.com/product/tps77101#samples
footprint TI-DGK8_N (SOP, 8-Leads, Body 3x3mm, Pitch 0.65mm, IPC Medium Density)
footprint TI-DGK8_L (SOP, 8-Leads, Body 3x3mm, Pitch 0.65mm, IPC High Density)
footprint TI-DGK8_M (SOP, 8-Leads, Body 3x3mm, Pitch 0.65mm, IPC Low Density)
pins: 1 FB (in) "Feedback input voltage for adjustable device", 2 ~{RESET} (hiz) "Reset output", 3 ~{EN} (in) "Enable input", 4 GND (power) "Regulator ground", 5 IN (power) "Input voltage", 6 IN (power) "Input voltage", 7 OUT (power) "Regulated output voltage", 8 OUT (power) "Regulated output voltage"

## TPS77101DGKR
designator U?
Single Output Fast Transient Response LDO, 150 mA, Adjustable 1.5 to 5.5 V Output, 2.7 to 10 V Input, 8-pin MSOP (DGK), -40 to 125 degC, Green (RoHS & no Sb/Br); Manufacturer: Texas Instruments; PartNumber: TPS77101DGKR; Accuracy(%): 2; Iout(Max)(A): 0.15; Iq(Typ)(mA): 0.09; Rating: Catalog; SubFamily: Single Channel LDO; Vdo(Typ)(mV): 75; Vin(Max)(V): 10; Vin(Min)(V): 2.7; Vout Adj(Max)(V): 5.5; Vout Adj(Min)(V): 1.5; DatasheetVersion: SLVS225D; PackageVersion: 4073329/E; PackageReference: DGK8; PackageDescription: 8-Pin Thin Small Outline Package 3 x 3 mm Body ,0.65 mm Pitch; Supplier 1: Digi-Key; Supplier Part Number 1: TPS77101DGKR-ND; Supplier 2: Newark; Supplier Part Number 2: 77C1190; Supplier 3: Mouser; Supplier Part Number 3: 595-TPS77101DGKR; Eco-Plan: Green (RoHS & no Sb/Br); Mounting Technology: Surface Mount; Code_JEDEC: MO-187; ComponentLink1Description: Manufacturer URL; ComponentLink1URL: http://www.ti.com/; ComponentLink2Description: Datasheet; ComponentLink2URL: http://www.ti.com/general/docs/lit/getliterature.tsp?genericPartNumber=TPS77101&fileType=pdf; ComponentLink3Description: Package Specification; ComponentLink3URL: http://www.ti.com/litv/pdf/mpds028d; ComponentLink4Description: URL Link1; ComponentLink4URL: Samples URL:http://www.ti.com/product/tps77101#samples
footprint TI-DGK8_N (SOP, 8-Leads, Body 3x3mm, Pitch 0.65mm, IPC Medium Density)
footprint TI-DGK8_L (SOP, 8-Leads, Body 3x3mm, Pitch 0.65mm, IPC High Density)
footprint TI-DGK8_M (SOP, 8-Leads, Body 3x3mm, Pitch 0.65mm, IPC Low Density)
pins: 1 FB (in) "Feedback input voltage for adjustable device", 2 ~{RESET} (hiz) "Reset output", 3 ~{EN} (in) "Enable input", 4 GND (power) "Regulator ground", 5 IN (power) "Input voltage", 6 IN (power) "Input voltage", 7 OUT (power) "Regulated output voltage", 8 OUT (power) "Regulated output voltage"

## TPS77101DGKRG4
designator U?
Single Output Fast Transient Response LDO, 150 mA, Adjustable 1.5 to 5.5 V Output, 2.7 to 10 V Input, 8-pin MSOP (DGK), -40 to 125 degC, Green (RoHS & no Sb/Br); Manufacturer: Texas Instruments; PartNumber: TPS77101DGKRG4; Accuracy(%): 2; Iout(Max)(A): 0.15; Iq(Typ)(mA): 0.09; Rating: Catalog; SubFamily: Single Channel LDO; Vdo(Typ)(mV): 75; Vin(Max)(V): 10; Vin(Min)(V): 2.7; Vout Adj(Max)(V): 5.5; Vout Adj(Min)(V): 1.5; DatasheetVersion: SLVS225D; PackageVersion: 4073329/E; PackageReference: DGK8; PackageDescription: 8-Pin Thin Small Outline Package 3 x 3 mm Body ,0.65 mm Pitch; Supplier 1: Digi-Key; Supplier Part Number 1: TPS77101DGKRG4-ND; Supplier 2: Mouser; Supplier Part Number 2: 595-TPS77101DGKRG4; Eco-Plan: Green (RoHS & no Sb/Br); Mounting Technology: Surface Mount; Code_JEDEC: MO-187; ComponentLink1Description: Manufacturer URL; ComponentLink1URL: http://www.ti.com/; ComponentLink2Description: Datasheet; ComponentLink2URL: http://www.ti.com/general/docs/lit/getliterature.tsp?genericPartNumber=TPS77101&fileType=pdf; ComponentLink3Description: Package Specification; ComponentLink3URL: http://www.ti.com/litv/pdf/mpds028d; ComponentLink4Description: URL Link1; ComponentLink4URL: Samples URL:http://www.ti.com/product/tps77101#samples
footprint TI-DGK8_N (SOP, 8-Leads, Body 3x3mm, Pitch 0.65mm, IPC Medium Density)
footprint TI-DGK8_L (SOP, 8-Leads, Body 3x3mm, Pitch 0.65mm, IPC High Density)
footprint TI-DGK8_M (SOP, 8-Leads, Body 3x3mm, Pitch 0.65mm, IPC Low Density)
pins: 1 FB (in) "Feedback input voltage for adjustable device", 2 ~{RESET} (hiz) "Reset output", 3 ~{EN} (in) "Enable input", 4 GND (power) "Regulator ground", 5 IN (power) "Input voltage", 6 IN (power) "Input voltage", 7 OUT (power) "Regulated output voltage", 8 OUT (power) "Regulated output voltage"

## TPS77101QDGKRG4Q1
designator U?
Single Output Automotive LDO, 150 mA, Adjustable 1.5 to 5.5 V Output, 2.7 to 10 V Input, 8-pin MSOP (DGK), -40 to 125 degC, Green (RoHS & no Sb/Br); Manufacturer: Texas Instruments; PartNumber: TPS77101QDGKRG4Q1; Accuracy(%): 2; Iout(Max)(A): 0.15; Iq(Typ)(mA): 0.092; SubFamily: Single Channel LDO; Vdo(Typ)(mV): 75; Vin(Max)(V): 10; Vin(Min)(V): 2.7; Vout Adj(Max)(V): 5.5; Vout Adj(Min)(V): 1.5; DatasheetVersion: SGLS295A; PackageVersion: 4073329/E; PackageReference: DGK8; PackageDescription: 8-Pin Thin Small Outline Package 3 x 3 mm Body ,0.65 mm Pitch; Supplier 1: Digi-Key; Supplier Part Number 1: TPS77101QDGKRG4Q1-ND; Supplier 2: Mouser; Supplier Part Number 2: 595-S77101QDGKRG4Q1; Eco-Plan: Green (RoHS & no Sb/Br); Rating: Automotive; Mounting Technology: Surface Mount; Code_JEDEC: MO-187; ComponentLink1Description: Manufacturer URL; ComponentLink1URL: http://www.ti.com/; ComponentLink2Description: Datasheet; ComponentLink2URL: http://www.ti.com/general/docs/lit/getliterature.tsp?genericPartNumber=TPS77101-Q1&fileType=pdf; ComponentLink3Description: Package Specification; ComponentLink3URL: http://www.ti.com/litv/pdf/mpds028d; ComponentLink4Description: URL Link1; ComponentLink4URL: Samples URL:http://www.ti.com/product/tps77101-q1#samples
footprint TI-DGK8_N (SOP, 8-Leads, Body 3x3mm, Pitch 0.65mm, IPC Medium Density)
footprint TI-DGK8_L (SOP, 8-Leads, Body 3x3mm, Pitch 0.65mm, IPC High Density)
footprint TI-DGK8_M (SOP, 8-Leads, Body 3x3mm, Pitch 0.65mm, IPC Low Density)
pins: 1 FB (in) "Feedback input voltage for adjustable device", 2 ~{RESET} (hiz) "Reset output", 3 ~{EN} (in) "Enable input", 4 GND (power) "Regulator ground", 5 IN (power) "Input voltage", 6 IN (power) "Input voltage", 7 OUT (power) "Regulated output voltage", 8 OUT (power) "Regulated output voltage"

## TPS77101QDGKRQ1
designator U?
Single Output Automotive LDO, 150 mA, Adjustable 1.5 to 5.5 V Output, 2.7 to 10 V Input, 8-pin MSOP (DGK), -40 to 125 degC, Green (RoHS & no Sb/Br); Manufacturer: Texas Instruments; PartNumber: TPS77101QDGKRQ1; Accuracy(%): 2; Iout(Max)(A): 0.15; Iq(Typ)(mA): 0.092; SubFamily: Single Channel LDO; Vdo(Typ)(mV): 75; Vin(Max)(V): 10; Vin(Min)(V): 2.7; Vout Adj(Max)(V): 5.5; Vout Adj(Min)(V): 1.5; DatasheetVersion: SGLS295A; PackageVersion: 4073329/E; PackageReference: DGK8; PackageDescription: 8-Pin Thin Small Outline Package 3 x 3 mm Body ,0.65 mm Pitch; Supplier 1: Digi-Key; Supplier Part Number 1: 296-22517-2-ND; Supplier 2: Digi-Key; Supplier Part Number 2: 296-22517-1-ND; Supplier 3: Digi-Key; Supplier Part Number 3: 296-22517-6-ND; Supplier 4: Newark; Supplier Part Number 4: 24K6192; Supplier 5: Mouser; Supplier Part Number 5: 595-TPS77101QDGKRQ1; Eco-Plan: Green (RoHS & no Sb/Br); Rating: Automotive; Mounting Technology: Surface Mount; Code_JEDEC: MO-187; ComponentLink1Description: Manufacturer URL; ComponentLink1URL: http://www.ti.com/; ComponentLink2Description: Datasheet; ComponentLink2URL: http://www.ti.com/general/docs/lit/getliterature.tsp?genericPartNumber=TPS77101-Q1&fileType=pdf; ComponentLink3Description: Package Specification; ComponentLink3URL: http://www.ti.com/litv/pdf/mpds028d; ComponentLink4Description: URL Link1; ComponentLink4URL: Samples URL:http://www.ti.com/product/tps77101-q1#samples
footprint TI-DGK8_N (SOP, 8-Leads, Body 3x3mm, Pitch 0.65mm, IPC Medium Density)
footprint TI-DGK8_L (SOP, 8-Leads, Body 3x3mm, Pitch 0.65mm, IPC High Density)
footprint TI-DGK8_M (SOP, 8-Leads, Body 3x3mm, Pitch 0.65mm, IPC Low Density)
pins: 1 FB (in) "Feedback input voltage for adjustable device", 2 ~{RESET} (hiz) "Reset output", 3 ~{EN} (in) "Enable input", 4 GND (power) "Regulator ground", 5 IN (power) "Input voltage", 6 IN (power) "Input voltage", 7 OUT (power) "Regulated output voltage", 8 OUT (power) "Regulated output voltage"

## TPS77115DGK
designator U?
Single Output Fast Transient Response LDO, 150 mA, Fixed 1.5 V Output, 2.7 to 10 V Input, 8-pin MSOP (DGK), -40 to 125 degC, Green (RoHS & no Sb/Br); Manufacturer: Texas Instruments; PartNumber: TPS77115DGK; Accuracy(%): 2; Fixed Output Options(V): 1.5; Iout(Max)(A): 0.15; Iq(Typ)(mA): 0.09; Rating: Catalog; SubFamily: Single Channel LDO; Vdo(Typ)(mV): 75; Vin(Max)(V): 10; Vin(Min)(V): 2.7; DatasheetVersion: SLVS225D; PackageVersion: 4073329/E; PackageReference: DGK8; PackageDescription: 8-Pin Thin Small Outline Package 3 x 3 mm Body ,0.65 mm Pitch; Supplier 1: Digi-Key; Supplier Part Number 1: 296-8095-5-ND; Supplier 2: Mouser; Supplier Part Number 2: 595-TPS77115DGK; Eco-Plan: Green (RoHS & no Sb/Br); Vout Adj(Max)(V): 1.5; Vout Adj(Min)(V): 1.5; Mounting Technology: Surface Mount; Code_JEDEC: MO-187; ComponentLink1Description: Manufacturer URL; ComponentLink1URL: http://www.ti.com/; ComponentLink2Description: Datasheet; ComponentLink2URL: http://www.ti.com/general/docs/lit/getliterature.tsp?genericPartNumber=TPS77115&fileType=pdf; ComponentLink3Description: Package Specification; ComponentLink3URL: http://www.ti.com/litv/pdf/mpds028d; ComponentLink4Description: URL Link1; ComponentLink4URL: Samples URL:http://www.ti.com/product/tps77115#samples
footprint TI-DGK8_N (SOP, 8-Leads, Body 3x3mm, Pitch 0.65mm, IPC Medium Density)
footprint TI-DGK8_L (SOP, 8-Leads, Body 3x3mm, Pitch 0.65mm, IPC High Density)
footprint TI-DGK8_M (SOP, 8-Leads, Body 3x3mm, Pitch 0.65mm, IPC Low Density)
pins: 1 SENSE (in) "Sense input", 2 ~{RESET} (hiz) "Reset output", 3 ~{EN} (in) "Enable input", 4 GND (power) "Regulator ground", 5 IN (power) "Input voltage", 6 IN (power) "Input voltage", 7 OUT (power) "Regulated output voltage", 8 OUT (power) "Regulated output voltage"

## TPS77115DGKG4
designator U?
Single Output Fast Transient Response LDO, 150 mA, Fixed 1.5 V Output, 2.7 to 10 V Input, 8-pin MSOP (DGK), -40 to 125 degC, Green (RoHS & no Sb/Br); Manufacturer: Texas Instruments; PartNumber: TPS77115DGKG4; Accuracy(%): 2; Fixed Output Options(V): 1.5; Iout(Max)(A): 0.15; Iq(Typ)(mA): 0.09; Rating: Catalog; SubFamily: Single Channel LDO; Vdo(Typ)(mV): 75; Vin(Max)(V): 10; Vin(Min)(V): 2.7; DatasheetVersion: SLVS225D; PackageVersion: 4073329/E; PackageReference: DGK8; PackageDescription: 8-Pin Thin Small Outline Package 3 x 3 mm Body ,0.65 mm Pitch; Supplier 1: Digi-Key; Supplier Part Number 1: TPS77115DGKG4-ND; Supplier 2: Mouser; Supplier Part Number 2: 595-TPS77115DGKG4; Eco-Plan: Green (RoHS & no Sb/Br); Vout Adj(Max)(V): 1.5; Vout Adj(Min)(V): 1.5; Mounting Technology: Surface Mount; Code_JEDEC: MO-187; ComponentLink1Description: Manufacturer URL; ComponentLink1URL: http://www.ti.com/; ComponentLink2Description: Datasheet; ComponentLink2URL: http://www.ti.com/general/docs/lit/getliterature.tsp?genericPartNumber=TPS77115&fileType=pdf; ComponentLink3Description: Package Specification; ComponentLink3URL: http://www.ti.com/litv/pdf/mpds028d; ComponentLink4Description: URL Link1; ComponentLink4URL: Samples URL:http://www.ti.com/product/tps77115#samples
footprint TI-DGK8_N (SOP, 8-Leads, Body 3x3mm, Pitch 0.65mm, IPC Medium Density)
footprint TI-DGK8_L (SOP, 8-Leads, Body 3x3mm, Pitch 0.65mm, IPC High Density)
footprint TI-DGK8_M (SOP, 8-Leads, Body 3x3mm, Pitch 0.65mm, IPC Low Density)
pins: 1 SENSE (in) "Sense input", 2 ~{RESET} (hiz) "Reset output", 3 ~{EN} (in) "Enable input", 4 GND (power) "Regulator ground", 5 IN (power) "Input voltage", 6 IN (power) "Input voltage", 7 OUT (power) "Regulated output voltage", 8 OUT (power) "Regulated output voltage"

## TPS77115DGKR
designator U?
Single Output Fast Transient Response LDO, 150 mA, Fixed 1.5 V Output, 2.7 to 10 V Input, 8-pin MSOP (DGK), -40 to 125 degC, Green (RoHS & no Sb/Br); Manufacturer: Texas Instruments; PartNumber: TPS77115DGKR; Accuracy(%): 2; Fixed Output Options(V): 1.5; Iout(Max)(A): 0.15; Iq(Typ)(mA): 0.09; Rating: Catalog; SubFamily: Single Channel LDO; Vdo(Typ)(mV): 75; Vin(Max)(V): 10; Vin(Min)(V): 2.7; DatasheetVersion: SLVS225D; PackageVersion: 4073329/E; PackageReference: DGK8; PackageDescription: 8-Pin Thin Small Outline Package 3 x 3 mm Body ,0.65 mm Pitch; Supplier 1: Digi-Key; Supplier Part Number 1: TPS77115DGKR-ND; Supplier 2: Mouser; Supplier Part Number 2: 595-TPS77115DGKR; Eco-Plan: Green (RoHS & no Sb/Br); Vout Adj(Max)(V): 1.5; Vout Adj(Min)(V): 1.5; Mounting Technology: Surface Mount; Code_JEDEC: MO-187; ComponentLink1Description: Manufacturer URL; ComponentLink1URL: http://www.ti.com/; ComponentLink2Description: Datasheet; ComponentLink2URL: http://www.ti.com/general/docs/lit/getliterature.tsp?genericPartNumber=TPS77115&fileType=pdf; ComponentLink3Description: Package Specification; ComponentLink3URL: http://www.ti.com/litv/pdf/mpds028d; ComponentLink4Description: URL Link1; ComponentLink4URL: Samples URL:http://www.ti.com/product/tps77115#samples
footprint TI-DGK8_N (SOP, 8-Leads, Body 3x3mm, Pitch 0.65mm, IPC Medium Density)
footprint TI-DGK8_L (SOP, 8-Leads, Body 3x3mm, Pitch 0.65mm, IPC High Density)
footprint TI-DGK8_M (SOP, 8-Leads, Body 3x3mm, Pitch 0.65mm, IPC Low Density)
pins: 1 SENSE (in) "Sense input", 2 ~{RESET} (hiz) "Reset output", 3 ~{EN} (in) "Enable input", 4 GND (power) "Regulator ground", 5 IN (power) "Input voltage", 6 IN (power) "Input voltage", 7 OUT (power) "Regulated output voltage", 8 OUT (power) "Regulated output voltage"

## TPS77115DGKRG4
designator U?
Single Output Fast Transient Response LDO, 150 mA, Fixed 1.5 V Output, 2.7 to 10 V Input, 8-pin MSOP (DGK), -40 to 125 degC, Green (RoHS & no Sb/Br); Manufacturer: Texas Instruments; PartNumber: TPS77115DGKRG4; Accuracy(%): 2; Fixed Output Options(V): 1.5; Iout(Max)(A): 0.15; Iq(Typ)(mA): 0.09; Rating: Catalog; SubFamily: Single Channel LDO; Vdo(Typ)(mV): 75; Vin(Max)(V): 10; Vin(Min)(V): 2.7; DatasheetVersion: SLVS225D; PackageVersion: 4073329/E; PackageReference: DGK8; PackageDescription: 8-Pin Thin Small Outline Package 3 x 3 mm Body ,0.65 mm Pitch; Supplier 1: Digi-Key; Supplier Part Number 1: TPS77115DGKRG4-ND; Supplier 2: Mouser; Supplier Part Number 2: 595-TPS77115DGKRG4; Eco-Plan: Green (RoHS & no Sb/Br); Vout Adj(Max)(V): 1.5; Vout Adj(Min)(V): 1.5; Mounting Technology: Surface Mount; Code_JEDEC: MO-187; ComponentLink1Description: Manufacturer URL; ComponentLink1URL: http://www.ti.com/; ComponentLink2Description: Datasheet; ComponentLink2URL: http://www.ti.com/general/docs/lit/getliterature.tsp?genericPartNumber=TPS77115&fileType=pdf; ComponentLink3Description: Package Specification; ComponentLink3URL: http://www.ti.com/litv/pdf/mpds028d; ComponentLink4Description: URL Link1; ComponentLink4URL: Samples URL:http://www.ti.com/product/tps77115#samples
footprint TI-DGK8_N (SOP, 8-Leads, Body 3x3mm, Pitch 0.65mm, IPC Medium Density)
footprint TI-DGK8_L (SOP, 8-Leads, Body 3x3mm, Pitch 0.65mm, IPC High Density)
footprint TI-DGK8_M (SOP, 8-Leads, Body 3x3mm, Pitch 0.65mm, IPC Low Density)
pins: 1 SENSE (in) "Sense input", 2 ~{RESET} (hiz) "Reset output", 3 ~{EN} (in) "Enable input", 4 GND (power) "Regulator ground", 5 IN (power) "Input voltage", 6 IN (power) "Input voltage", 7 OUT (power) "Regulated output voltage", 8 OUT (power) "Regulated output voltage"

## TPS77118DGK
designator U?
Single Output Fast Transient Response LDO, 150 mA, Fixed 1.8 V Output, 2.7 to 10 V Input, 8-pin MSOP (DGK), -40 to 125 degC, Green (RoHS & no Sb/Br); Manufacturer: Texas Instruments; PartNumber: TPS77118DGK; Accuracy(%): 2; Fixed Output Options(V): 1.8; Iout(Max)(A): 0.15; Iq(Typ)(mA): 0.09; Rating: Catalog; SubFamily: Single Channel LDO; Vdo(Typ)(mV): 75; Vin(Max)(V): 10; Vin(Min)(V): 2.7; DatasheetVersion: SLVS225D; PackageVersion: 4073329/E; PackageReference: DGK8; PackageDescription: 8-Pin Thin Small Outline Package 3 x 3 mm Body ,0.65 mm Pitch; Supplier 1: Digi-Key; Supplier Part Number 1: 296-8096-5-ND; Supplier 2: Mouser; Supplier Part Number 2: 595-TPS77118DGK; Eco-Plan: Green (RoHS & no Sb/Br); Vout Adj(Max)(V): 1.8; Vout Adj(Min)(V): 1.8; Mounting Technology: Surface Mount; Code_JEDEC: MO-187; ComponentLink1Description: Manufacturer URL; ComponentLink1URL: http://www.ti.com/; ComponentLink2Description: Datasheet; ComponentLink2URL: http://www.ti.com/general/docs/lit/getliterature.tsp?genericPartNumber=TPS77118&fileType=pdf; ComponentLink3Description: Package Specification; ComponentLink3URL: http://www.ti.com/litv/pdf/mpds028d; ComponentLink4Description: URL Link1; ComponentLink4URL: Samples URL:http://www.ti.com/product/tps77118#samples
footprint TI-DGK8_N (SOP, 8-Leads, Body 3x3mm, Pitch 0.65mm, IPC Medium Density)
footprint TI-DGK8_L (SOP, 8-Leads, Body 3x3mm, Pitch 0.65mm, IPC High Density)
footprint TI-DGK8_M (SOP, 8-Leads, Body 3x3mm, Pitch 0.65mm, IPC Low Density)
pins: 1 SENSE (in) "Sense input", 2 ~{RESET} (hiz) "Reset output", 3 ~{EN} (in) "Enable input", 4 GND (power) "Regulator ground", 5 IN (power) "Input voltage", 6 IN (power) "Input voltage", 7 OUT (power) "Regulated output voltage", 8 OUT (power) "Regulated output voltage"

## TPS77118DGKG4
designator U?
Single Output Fast Transient Response LDO, 150 mA, Fixed 1.8 V Output, 2.7 to 10 V Input, 8-pin MSOP (DGK), -40 to 125 degC, Green (RoHS & no Sb/Br); Manufacturer: Texas Instruments; PartNumber: TPS77118DGKG4; Accuracy(%): 2; Fixed Output Options(V): 1.8; Iout(Max)(A): 0.15; Iq(Typ)(mA): 0.09; Rating: Catalog; SubFamily: Single Channel LDO; Vdo(Typ)(mV): 75; Vin(Max)(V): 10; Vin(Min)(V): 2.7; DatasheetVersion: SLVS225D; PackageVersion: 4073329/E; PackageReference: DGK8; PackageDescription: 8-Pin Thin Small Outline Package 3 x 3 mm Body ,0.65 mm Pitch; Supplier 1: Digi-Key; Supplier Part Number 1: TPS77118DGKG4-ND; Supplier 2: Mouser; Supplier Part Number 2: 595-TPS77118DGKG4; Eco-Plan: Green (RoHS & no Sb/Br); Vout Adj(Max)(V): 1.8; Vout Adj(Min)(V): 1.8; Mounting Technology: Surface Mount; Code_JEDEC: MO-187; ComponentLink1Description: Manufacturer URL; ComponentLink1URL: http://www.ti.com/; ComponentLink2Description: Datasheet; ComponentLink2URL: http://www.ti.com/general/docs/lit/getliterature.tsp?genericPartNumber=TPS77118&fileType=pdf; ComponentLink3Description: Package Specification; ComponentLink3URL: http://www.ti.com/litv/pdf/mpds028d; ComponentLink4Description: URL Link1; ComponentLink4URL: Samples URL:http://www.ti.com/product/tps77118#samples
footprint TI-DGK8_N (SOP, 8-Leads, Body 3x3mm, Pitch 0.65mm, IPC Medium Density)
footprint TI-DGK8_L (SOP, 8-Leads, Body 3x3mm, Pitch 0.65mm, IPC High Density)
footprint TI-DGK8_M (SOP, 8-Leads, Body 3x3mm, Pitch 0.65mm, IPC Low Density)
pins: 1 SENSE (in) "Sense input", 2 ~{RESET} (hiz) "Reset output", 3 ~{EN} (in) "Enable input", 4 GND (power) "Regulator ground", 5 IN (power) "Input voltage", 6 IN (power) "Input voltage", 7 OUT (power) "Regulated output voltage", 8 OUT (power) "Regulated output voltage"

## TPS77127DGK
designator U?
Single Output Fast Transient Response LDO, 150 mA, Fixed 2.7 V Output, 2.7 to 10 V Input, 8-pin MSOP (DGK), -40 to 125 degC, Green (RoHS & no Sb/Br); Manufacturer: Texas Instruments; PartNumber: TPS77127DGK; Accuracy(%): 2; Fixed Output Options(V): 2.7; Iout(Max)(A): 0.15; Iq(Typ)(mA): 0.09; Rating: Catalog; SubFamily: Single Channel LDO; Vdo(Typ)(mV): 75; Vin(Max)(V): 10; DatasheetVersion: SLVS225D; PackageVersion: 4073329/E; PackageReference: DGK8; PackageDescription: 8-Pin Thin Small Outline Package 3 x 3 mm Body ,0.65 mm Pitch; Supplier 1: Digi-Key; Supplier Part Number 1: 296-8097-5-ND; Supplier 2: Mouser; Supplier Part Number 2: 595-TPS77127DGK; Eco-Plan: Green (RoHS & no Sb/Br); Vin(Min)(V): 2.7; Vout Adj(Max)(V): 2.7; Vout Adj(Min)(V): 2.7; Mounting Technology: Surface Mount; Code_JEDEC: MO-187; ComponentLink1Description: Manufacturer URL; ComponentLink1URL: http://www.ti.com/; ComponentLink2Description: Datasheet; ComponentLink2URL: http://www.ti.com/general/docs/lit/getliterature.tsp?genericPartNumber=TPS77127&fileType=pdf; ComponentLink3Description: Package Specification; ComponentLink3URL: http://www.ti.com/litv/pdf/mpds028d; ComponentLink4Description: URL Link1; ComponentLink4URL: Samples URL:http://www.ti.com/product/tps77127#samples
footprint TI-DGK8_N (SOP, 8-Leads, Body 3x3mm, Pitch 0.65mm, IPC Medium Density)
footprint TI-DGK8_L (SOP, 8-Leads, Body 3x3mm, Pitch 0.65mm, IPC High Density)
footprint TI-DGK8_M (SOP, 8-Leads, Body 3x3mm, Pitch 0.65mm, IPC Low Density)
pins: 1 SENSE (in) "Sense input", 2 ~{RESET} (hiz) "Reset output", 3 ~{EN} (in) "Enable input", 4 GND (power) "Regulator ground", 5 IN (power) "Input voltage", 6 IN (power) "Input voltage", 7 OUT (power) "Regulated output voltage", 8 OUT (power) "Regulated output voltage"

## TPS77127DGKG4
designator U?
Single Output Fast Transient Response LDO, 150 mA, Fixed 2.7 V Output, 2.7 to 10 V Input, 8-pin MSOP (DGK), -40 to 125 degC, Green (RoHS & no Sb/Br); Manufacturer: Texas Instruments; PartNumber: TPS77127DGKG4; Accuracy(%): 2; Fixed Output Options(V): 2.7; Iout(Max)(A): 0.15; Iq(Typ)(mA): 0.09; Rating: Catalog; SubFamily: Single Channel LDO; Vdo(Typ)(mV): 75; Vin(Max)(V): 10; DatasheetVersion: SLVS225D; PackageVersion: 4073329/E; PackageReference: DGK8; PackageDescription: 8-Pin Thin Small Outline Package 3 x 3 mm Body ,0.65 mm Pitch; Supplier 1: Digi-Key; Supplier Part Number 1: TPS77127DGKG4-ND; Supplier 2: Newark; Supplier Part Number 2: 27M1107; Supplier 3: Mouser; Supplier Part Number 3: 595-TPS77127DGKG4; Eco-Plan: Green (RoHS & no Sb/Br); Vin(Min)(V): 2.7; Vout Adj(Max)(V): 2.7; Vout Adj(Min)(V): 2.7; Mounting Technology: Surface Mount; Code_JEDEC: MO-187; ComponentLink1Description: Manufacturer URL; ComponentLink1URL: http://www.ti.com/; ComponentLink2Description: Datasheet; ComponentLink2URL: http://www.ti.com/general/docs/lit/getliterature.tsp?genericPartNumber=TPS77127&fileType=pdf; ComponentLink3Description: Package Specification; ComponentLink3URL: http://www.ti.com/litv/pdf/mpds028d; ComponentLink4Description: URL Link1; ComponentLink4URL: Samples URL:http://www.ti.com/product/tps77127#samples
footprint TI-DGK8_N (SOP, 8-Leads, Body 3x3mm, Pitch 0.65mm, IPC Medium Density)
footprint TI-DGK8_L (SOP, 8-Leads, Body 3x3mm, Pitch 0.65mm, IPC High Density)
footprint TI-DGK8_M (SOP, 8-Leads, Body 3x3mm, Pitch 0.65mm, IPC Low Density)
pins: 1 SENSE (in) "Sense input", 2 ~{RESET} (hiz) "Reset output", 3 ~{EN} (in) "Enable input", 4 GND (power) "Regulator ground", 5 IN (power) "Input voltage", 6 IN (power) "Input voltage", 7 OUT (power) "Regulated output voltage", 8 OUT (power) "Regulated output voltage"